# EAGLE library part ACPL244 (library Avago)
AVAGO OPTO COUPLER
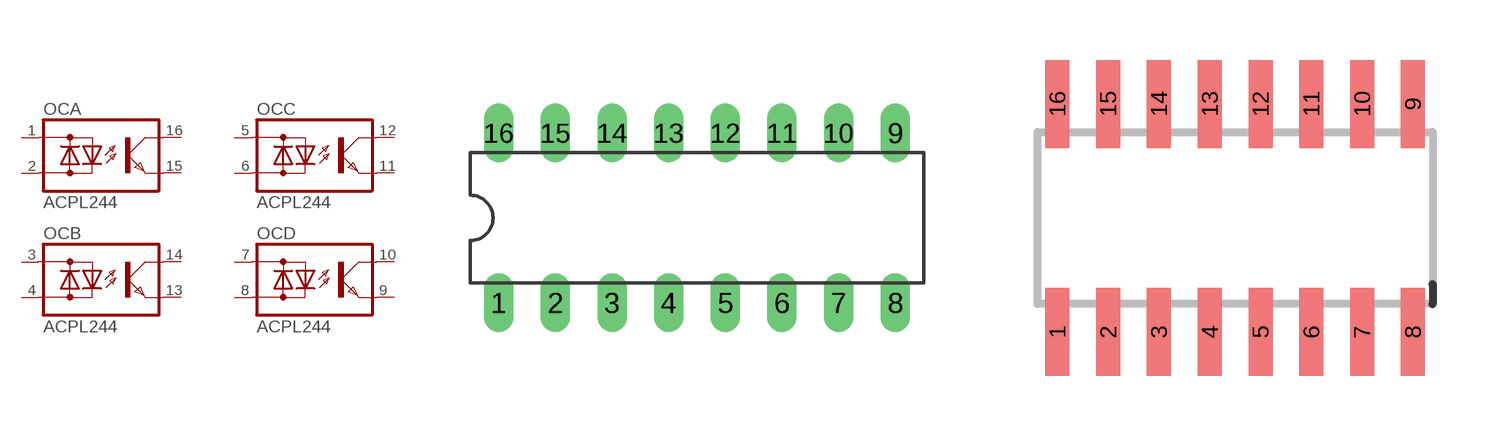
[diagram p0: symbol with the pads of DIL16; footprints DIL16, SO16]

Designator prefix OC; gates A=OK-LD B=OK-LD C=OK-LD D=OK-LD

## ACPL244  [DIL16]
1  A:AC1  pas
2  A:AC2  pas
3  B:AC1  pas
4  B:AC2  pas
5  C:AC1  pas
6  C:AC2  pas
7  D:AC1  pas
8  D:AC2  pas
9  D:E  pas
10  D:C  pas
11  C:E  pas
12  C:C  pas
13  B:E  pas
14  B:C  pas
15  A:E  pas
16  A:C  pas

## ACPL244SO16  [SO16]
Pads as for DIL16

## Footprint DIL16 (pad centres in mm)
Dual In Line Package
drill 0.813 long: 1 -8.89,-3.81; 2 -6.35,-3.81; 3 -3.81,-3.81; 4 -1.27,-3.81; 5 1.27,-3.81; 6 3.81,-3.81; 7 6.35,-3.81; 8 8.89,-3.81; 9 8.89,3.81; 10 6.35,3.81; 11 3.81,3.81; 12 1.27,3.81; 13 -1.27,3.81; 14 -3.81,3.81; 15 -6.35,3.81; 16 -8.89,3.81

## Footprint SO16 (pad centres in mm)
SMALL OUTLINE INTEGRATED CIRCUIT
smd 0.6 x 2.2: 1 -4.445,-2.854; 2 -3.175,-2.854; 3 -1.905,-2.854; 4 -0.635,-2.854; 5 0.635,-2.854; 6 1.905,-2.854; 7 3.175,-2.854; 8 4.445,-2.854; 9 4.445,2.854; 10 3.175,2.854; 11 1.905,2.854; 12 0.635,2.854; 13 -0.635,2.854; 14 -1.905,2.854; 15 -3.175,2.854; 16 -4.445,2.854